# Altium footprint library 220uF 35V Elektrolikit Kapasitör.PcbLib: 1 footprints
Each footprint in its own frame and in the unit in brackets; x right, y up, seen from the top. Pads: shape width x height; smd on the part's side, far side on the other; paste and mask are expansions set on the pad; w line width, h text height; cw(c..) or ccw(c..) is an arc to the next point about the centre after c.
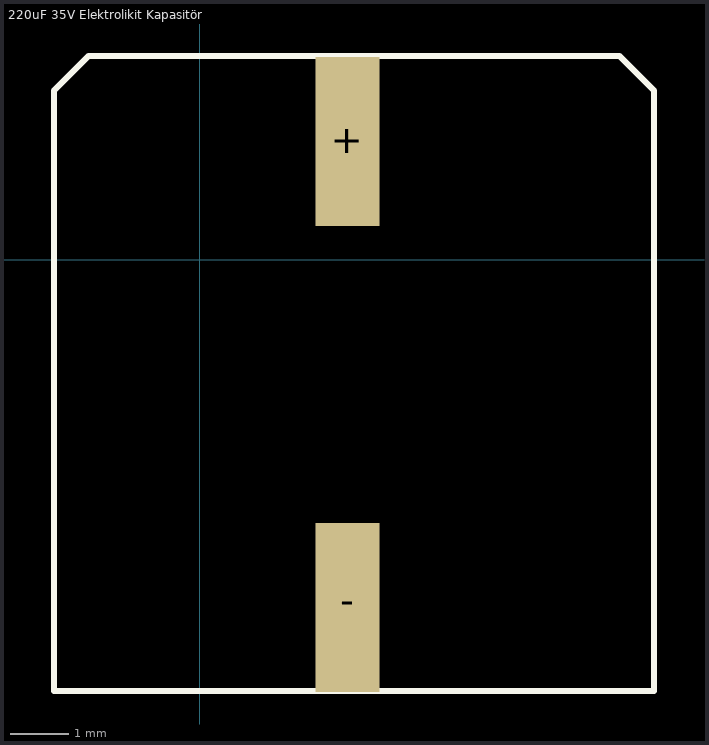
[diagram p0: the footprint, top view; thin cyan lines are the x and y axes]

## 220uF 35V Elektrolikit Kapasitör [mm]
pads (2):
  rect 1.1x2.9 smd mask+0.01: +(2.54,2.032) -(2.54,-5.969)
Top Overlay:
  lines w0.1: -2.5,-7.4 7.8,-7.4 7.8,-4.2 7.8,0.3 7.8,2.9 7.2,3.5 -1.9,3.5 -2.5,2.9 -2.5,-7.4